# Altium schematic symbol library TPS25730DREFR.Schlib: 1 symbol
Pins are listed as number, name and electrical type; pins without a type are passive.

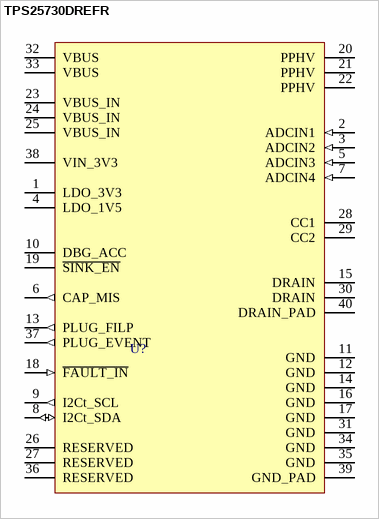
[diagram p0: symbol TPS25730DREFR]

## TPS25730DREFR
designator U?
USB PD Controller with Integrated Power Switches Standalone
pins: 1 LDO_3V3 (power), 2 ADCIN1 (in), 3 ADCIN2 (in), 4 LDO_1V5 (power), 5 ADCIN3 (in), 6 CAP_MIS (out), 7 ADCIN4 (in), 8 I2Ct_SDA (io), 9 I2Ct_SCL (out), 10 DBG_ACC (hiz), 11 GND (power), 12 GND (power), 13 PLUG_FILP (out), 14 GND (power), 15 DRAIN (hiz), 16 GND (power), 17 GND (power), 18 ~{FAULT_IN} (in), 19 ~{SINK_EN} (hiz), 20 PPHV (power), 21 PPHV (power), 22 PPHV (power), 23 VBUS_IN (power), 24 VBUS_IN (power), 25 VBUS_IN (power), 26 RESERVED (hiz), 27 RESERVED (hiz), 28 CC1 (hiz), 29 CC2 (hiz), 30 DRAIN (hiz), 31 GND (power), 32 VBUS (power), 33 VBUS (power), 34 GND (power), 35 GND (power), 36 RESERVED (hiz), 37 PLUG_EVENT (out), 38 VIN_3V3 (power), 39 GND_PAD (power), 40 DRAIN_PAD (hiz)